# EAGLE library part ARJM11C7-114-BA-EW2 (library 473)
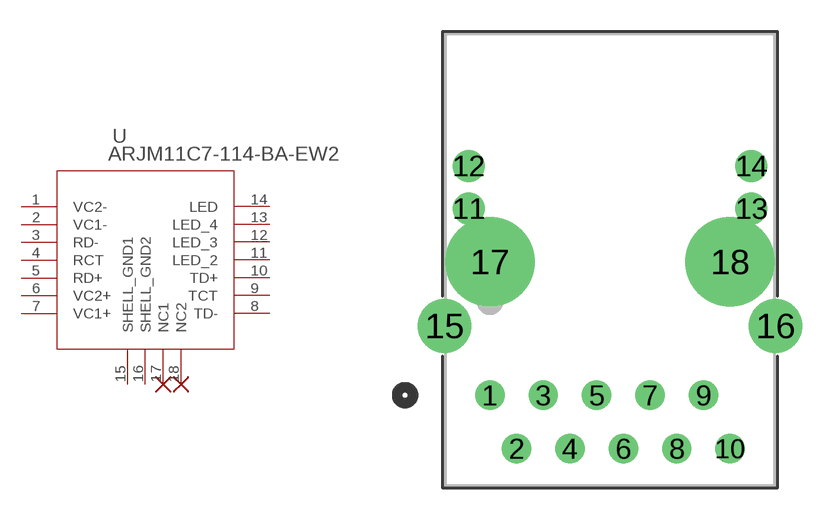
[diagram p5: symbol with the pads of ARJM11C7-114-BA-EW2_ABR; footprint ARJM11C7-114-BA-EW2_ABR]

Designator prefix U

## ARJM11C7-114-BA-EW2 (COPYRIGHT: Copyright (C) 2022 Ultra Librarian. All rights reserved.; DIGI-KEY_PART_NUMBER_1: 2266-ARJM11C7-114-BA-EW2-ND; DIGI-KEY_PART_NUMBER_2: 535-14168-ND; MANUFACTURER_PART_NUMBER: ARJM11C7-114-BA-EW2; MFR_NAME: Abracon)  [ARJM11C7-114-BA-EW2_ABR]
1  VC2-  pwr
2  VC1-  pwr
3  RD-  pas
4  RCT  pas
5  RD+  pas
6  VC2+  pwr
7  VC1+  pwr
8  TD-  pas
9  TCT  pas
10  TD+  pas
11  LED_2  pas
12  LED_3  pas
13  LED_4  pas
14  LED  pas
15  SHELL_GND1
16  SHELL_GND2
17  NC1
18  NC2

## Footprint ARJM11C7-114-BA-EW2_ABR (pad centres in mm)
drill 0.889 pad 1.397: 1 0,0; 2 1.27,-2.54; 3 2.54,0; 4 3.81,-2.54; 5 5.08,0; 6 6.35,-2.54; 7 7.62,0; 8 8.89,-2.54; 9 10.16,0; 10 11.43,-2.54
drill 1.016 pad 1.524: 11 -1.016,8.89; 12 -1.016,10.922; 13 12.446,8.89; 14 12.446,10.922
drill 1.702 pad 2.21: 15 -2.159,3.302; 16 13.589,3.302
drill 3.251 pad 3.759: 17 0,6.35; 18 11.43,6.35